# Altium integrated library acoustics-lib.IntLib: 2 symbols
Pins are listed as number, name and electrical type; pins without a type are passive.

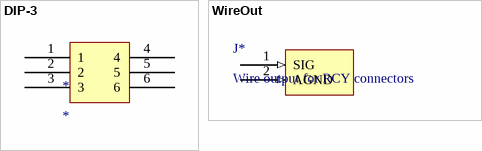
[diagram p0: symbols DIP-3 to WireOut]

## DIP-3
designator *
footprint DIP6
pins: 1, 2, 3, 4, 5, 6

## WireOut
designator J*, comment Wire output for RCY connectors
footprint WireOut
pins: 1 SIG (in), 2 AGND (in)